# Altium footprint library LNK302P.PcbLib: 1 footprints
Each footprint in its own frame and in the unit in brackets; x right, y up, seen from the top. Pads: shape width x height; smd on the part's side, far side on the other; paste and mask are expansions set on the pad; w line width, h text height; cw(c..) or ccw(c..) is an arc to the next point about the centre after c.
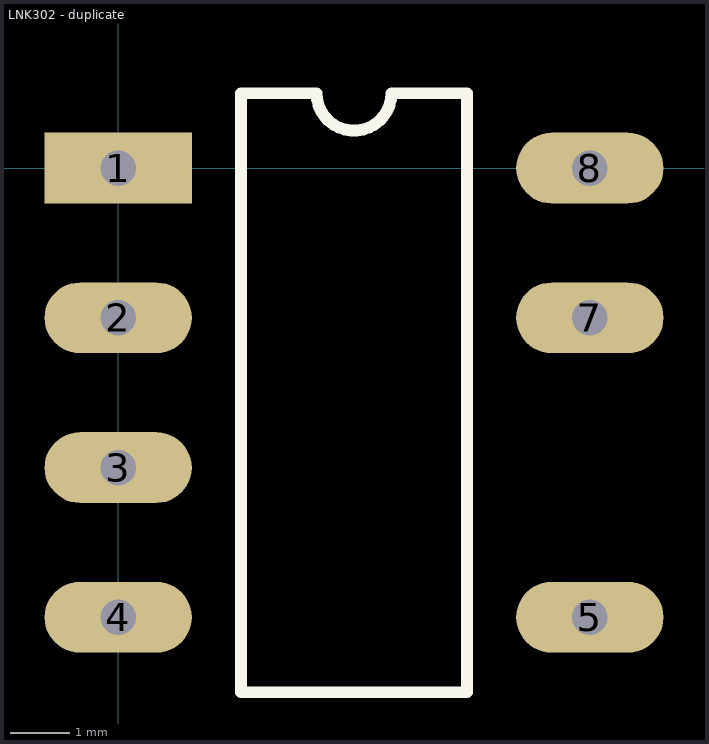
[diagram p0: the footprint, top view; thin cyan lines are the x and y axes]

## LNK302 - duplicate [mm]
pads (7):
  rect 2.5x1.2 hole 0.6: 1(0,0)
  oval 2.5x1.2 hole 0.6: 2(0,-2.54) 3(0,-5.08) 4(0,-7.62) 5(8,-7.62) 7(8,-2.54) 8(8,0)
Top Overlay:
  lines w0.2: 2.085,-8.89 2.085,1.27 3.365,1.27 ccw(c4,1.27) 4.635,1.27 5.915,1.27 5.915,-8.89 2.085,-8.89